# Altium schematic symbol library Components.SchLib: 1 symbol
Pins are listed as number, name and electrical type; pins without a type are passive.

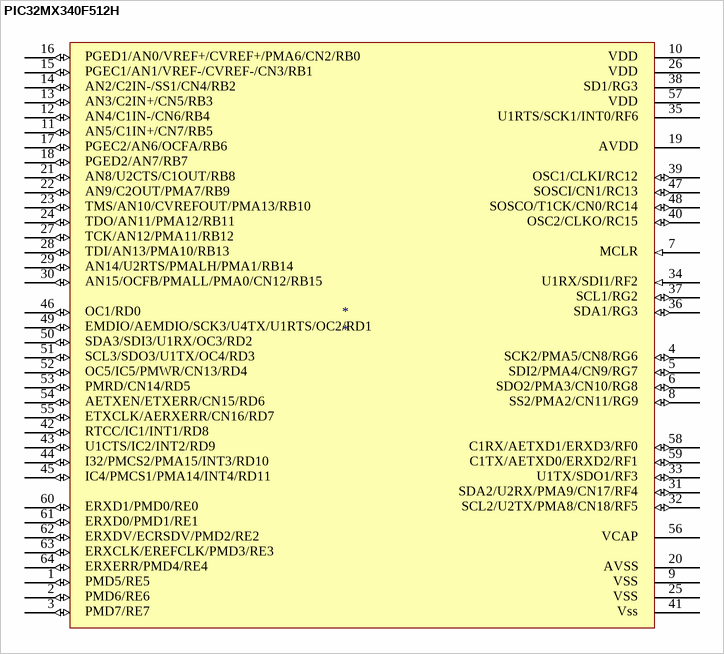
[diagram p0: symbol PIC32MX340F512H]

## PIC32MX340F512H
designator *
pins: 1 (io), 2 (io), 3 (io), 4 (io), 5 (io), 6 (io), 7 (in), 8 (io), 9 (power), 10 (power), 11 (io), 12 (io), 13 (io), 14 (io), 15 (io), 16 (io), 17 (io), 18 (io), 19 (power), 20 (power), 21 (io), 22 (io), 23 (io), 24 (io), 25 (power), 26 (power), 27 (io), 28 (io), 29 (io), 30 (io), 31 (io), 32 (io), 33 (io), 34 (in), 35 (power), 36 (io), 37 (io), 38 (power), 39 (io), 40 (io), 41 (power), 42 (io), 43 (io), 44 (io), 45 (io), 46 (io), 47 (io), 48 (io), 49 (io), 50 (io), 51 (io), 52 (io), 53 (io), 54 (io), 55 (io), 56 (power), 57 (power), 58 (io), 59 (io), 60 (io), 61 (io), 62 (io), 63 (io), 64 (io)
text: PGED1/AN0/VREF+/CVREF+/PMA6/CN2/RB0; VDD; PGEC1/AN1/VREF-/CVREF-/CN3/RB1; AN2/C2IN-/SS1/CN4/RB2; SD1/RG3; AN3/C2IN+/CN5/RB3; AN4/C1IN-/CN6/RB4; U1RTS/SCK1/INT0/RF6; AN5/C1IN+/CN7/RB5; PGEC2/AN6/OCFA/RB6; AVDD; PGED2/AN7/RB7; AN8/U2CTS/C1OUT/RB8; OSC1/CLKI/RC12; AN9/C2OUT/PMA7/RB9; SOSCI/CN1/RC13; TMS/AN10/CVREFOUT/PMA13/RB10; SOSCO/T1CK/CN0/RC14; TDO/AN11/PMA12/RB11; OSC2/CLKO/RC15; TCK/AN12/PMA11/RB12; TDI/AN13/PMA10/RB13; MCLR; AN14/U2RTS/PMALH/PMA1/RB14; AN15/OCFB/PMALL/PMA0/CN12/RB15; U1RX/SDI1/RF2; SCL1/RG2; OC1/RD0; SDA1/RG3; EMDIO/AEMDIO/SCK3/U4TX/U1RTS/OC2/RD1; SDA3/SDI3/U1RX/OC3/RD2; SCL3/SDO3/U1TX/OC4/RD3; SCK2/PMA5/CN8/RG6; OC5/IC5/PMWR/CN13/RD4; SDI2/PMA4/CN9/RG7; PMRD/CN14/RD5; SDO2/PMA3/CN10/RG8; AETXEN/ETXERR/CN15/RD6; SS2/PMA2/CN11/RG9; ETXCLK/AERXERR/CN16/RD7; RTCC/IC1/INT1/RD8; U1CTS/IC2/INT2/RD9; C1RX/AETXD1/ERXD3/RF0; I32/PMCS2/PMA15/INT3/RD10; C1TX/AETXD0/ERXD2/RF1; IC4/PMCS1/PMA14/INT4/RD11; U1TX/SDO1/RF3; SDA2/U2RX/PMA9/CN17/RF4; ERXD1/PMD0/RE0; SCL2/U2TX/PMA8/CN18/RF5; ERXD0/PMD1/RE1; ERXDV/ECRSDV/PMD2/RE2; VCAP; ERXCLK/EREFCLK/PMD3/RE3; ERXERR/PMD4/RE4; AVSS; PMD5/RE5; VSS; PMD6/RE6; PMD7/RE7; Vss